# EAGLE library part HT4928S (library ncat)
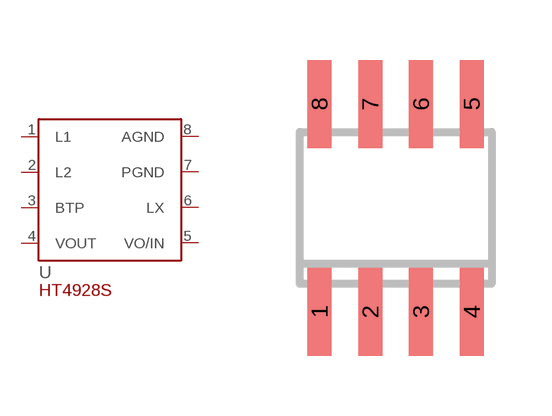
[diagram p5: symbol with the pads of IC-SO8; footprint IC-SO8]

Designator prefix -

## HT4928S  [IC-SO8]
1  L1
2  L2
3  BTP
4  VOUT
5  VO/IN
6  LX
7  PGND
8  AGND

## Footprint IC-SO8 (pad centres in mm)
smd 0.6 x 2.2: 1 -1.905,-2.6; 2 -0.635,-2.6; 3 0.635,-2.6; 4 1.905,-2.6; 5 1.905,2.6; 6 0.635,2.6; 7 -0.635,2.6; 8 -1.905,2.6